# Altium footprint library TB006-508-08BE.PcbLib: 2 footprints
Each footprint in its own frame and in the unit in brackets; x right, y up, seen from the top. Pads: shape width x height; smd on the part's side, far side on the other; paste and mask are expansions set on the pad; w line width, h text height; cw(c..) or ccw(c..) is an arc to the next point about the centre after c.
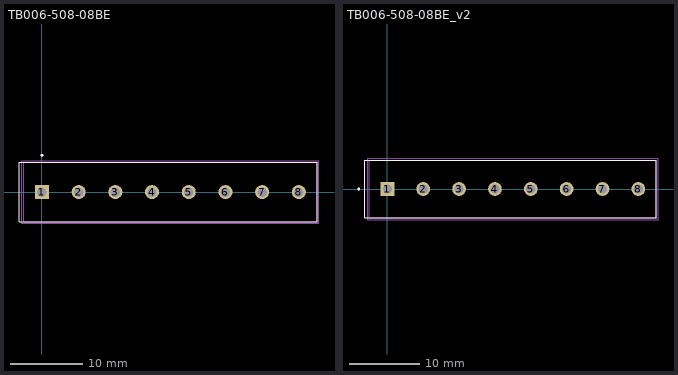
[diagram p0: the footprints below, top view; thin cyan lines are the x and y axes]

## TB006-508-08BE [mm]
pads (8):
  rect 1.95x1.95 hole 1.3: 1(0,0)
  round 1.95 hole 1.3: 2(5.08,0) 3(10.16,0) 4(15.24,0) 5(20.32,0) 6(25.4,0) 7(30.48,0) 8(35.56,0)
Top Overlay:
  circle w0.2: c0,5.1 r0.1
  lines w0.127: -3.175,-4.1 38.1,-4.1 38.1,4.1 -3.175,4.1 -3.175,-4.1
Mechanical 13:
  circle w0.2: c0,5.1 r0.1
  lines w0.127: -2.54,-4.1 38.1,-4.1 38.1,4.1 -2.54,4.1 -2.54,-4.1
Mechanical 15:
  lines w0.05: -2.79,-4.35 -2.79,4.35 38.35,4.35 38.35,-4.35 -2.79,-4.35
3D body "CUI_DEVICES_TB006-508-08BE.step": height 10, standoff -3.8, extent -3.044,-4.064 38.096,4.136

## TB006-508-08BE_v2 [mm] "Modified Pin1 indicator"
pads (8):
  rect 1.95x1.95 hole 1.3: 1(0,0)
  round 1.95 hole 1.3: 2(5.08,0) 3(10.16,0) 4(15.24,0) 5(20.32,0) 6(25.4,0) 7(30.48,0) 8(35.56,0)
Top Overlay:
  circle w0.2: c-4.064,0 r0.1
  lines w0.127: -3.175,-4.1 38.1,-4.1 38.1,4.1 -3.175,4.1 -3.175,-4.1
Mechanical 13:
  circle w0.2: c-4.064,0 r0.1
  lines w0.127: -2.54,-4.1 38.1,-4.1 38.1,4.1 -2.54,4.1 -2.54,-4.1
Mechanical 15:
  lines w0.05: -2.79,-4.35 -2.79,4.35 38.35,4.35 38.35,-4.35 -2.79,-4.35
3D body "CUI_DEVICES_TB006-508-08BE.step": height 10, standoff -3.8, extent -3.044,-4.064 38.096,4.136